# Altium schematic symbol library LED_SMD.SchLib: 10 symbols
Pins are listed as number, name and electrical type; pins without a type are passive.

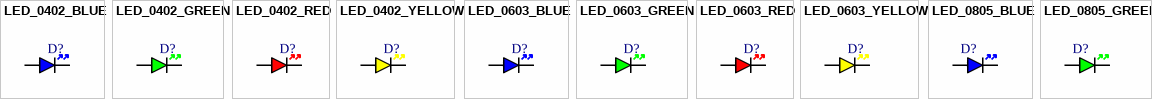
[diagram p0: symbols LED_0402_BLUE to LED_0805_GREEN]

## LED_0402_BLUE
designator D?, comment BLUE  (value not drawn)
LED 0402 BLUE SMD; COLOR: BLUE; SIZE: 0402; Supplier: N/A; Supplier Part Number: N/A; Supplier URL: N/A
footprint LED_0402_BLUE
pins: A, K

## LED_0402_GREEN
designator D?, comment BLUE  (value not drawn)
LED 0402 GREEN SMD; COLOR: GREEN; SIZE: 0402; Supplier: N/A; Supplier Part Number: N/A; Supplier URL: N/A
footprint LED_0402_GREEN
pins: A, K

## LED_0402_RED
designator D?, comment RED  (value not drawn)
LED 0402 RED SMD; COLOR: RED; SIZE: 0402; Supplier: N/A; Supplier Part Number: N/A; Supplier URL: N/A
footprint LED_0402_RED
pins: A, K

## LED_0402_YELLOW
designator D?, comment YELLOW  (value not drawn)
LED 0402 YELLOW SMD; COLOR: YELLOW; SIZE: 0402; Supplier: N/A; Supplier Part Number: N/A; Supplier URL: N/A
footprint LED_0402_YELLOW
pins: A, K

## LED_0603_BLUE
designator D?, comment BLUE  (value not drawn)
LED 0603 BLUE SMD; COLOR: BLUE; SIZE: 0603; Supplier: N/A; Supplier Part Number: N/A; Supplier URL: N/A
footprint LED_0603_BLUE
pins: A, K

## LED_0603_GREEN
designator D?, comment GREEN  (value not drawn)
LED 0603 GREEN SMD; COLOR: GREEN; SIZE: 0603; Supplier: N/A; Supplier Part Number: N/A; Supplier URL: N/A
footprint LED_0603_GREEN
pins: A, K

## LED_0603_RED
designator D?, comment RED  (value not drawn)
LED 0603 RED SMD; COLOR: RED; SIZE: 0603; Supplier: N/A; Supplier Part Number: N/A; Supplier URL: N/A
footprint LED_0603_BLUE
pins: A, K

## LED_0603_YELLOW
designator D?, comment YELLOW  (value not drawn)
LED 0603 YELLOW SMD; COLOR: YELLOW; SIZE: 0603; Supplier: N/A; Supplier Part Number: N/A; Supplier URL: N/A
footprint LED_0603_YELLOW
pins: A, K

## LED_0805_BLUE
designator D?, comment BLUE  (value not drawn)
LED 0805 BLUE SMD; Manufacturer: *; Manufacturer Part Number: *; Distributor Link: *; LCSC: *
footprint LED_0805_BLUE
pins: A, K

## LED_0805_GREEN
designator D?, comment GREEN  (value not drawn)
LED 0805 GREEN SMD; Manufacturer: *; Manufacturer Part Number: *; Distributor Link: *; LCSC: *
footprint LED_0805_GREEN
pins: A, K